# EAGLE library part SHARP-PC-CARTRIDGE (library KaiBader-Sharp-PC)
Sharp PC-1500(A) / PC-1600 internal 40-pin Cartridge Connector
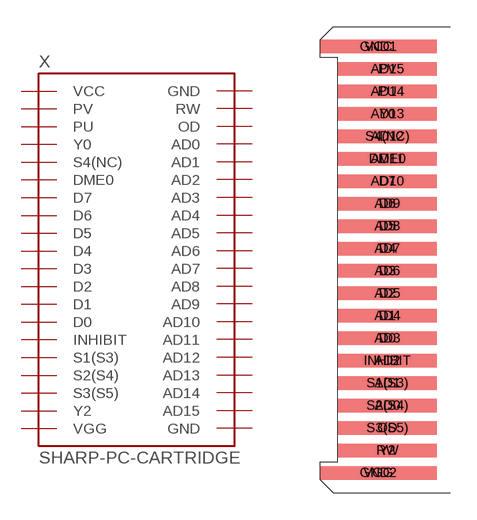
[diagram p0: symbol with the pads of SHARP-PC-CARTRIDGE; footprint SHARP-PC-CARTRIDGE]

Designator prefix X

## SHARP-PC-CARTRIDGE  [SHARP-PC-CARTRIDGE]
AD0  AD0
AD1  AD1
AD2  AD2
AD3  AD3
AD4  AD4
AD5  AD5
AD6  AD6
AD7  AD7
AD8  AD8
AD9  AD9
AD10  AD10
AD11  AD11
AD12  AD12
AD13  AD13
AD14  AD14
AD15  AD15
D0  D0
D1  D1
D2  D2
D3  D3
D4  D4
D5  D5
D6  D6
D7  D7
DME0  DME0
GND1  GND  pwr
GND2  GND  pwr
INHIBIT  INHIBIT
OD  OD
PU  PU
PV  PV
RW  RW
S1(S3)  S1(S3)
S2(S4)  S2(S4)
S3(S5)  S3(S5)
S4(NC)  S4(NC)
VCC  VCC  pwr
VGG  VGG  pwr
Y0  Y0
Y2  Y2

## Footprint SHARP-PC-CARTRIDGE (pad centres in mm)
smd 5.588 x 0.762 bottom: AD0 3.81,4.953; AD1 3.81,6.223; AD2 3.81,7.493; AD3 3.81,8.763; AD4 3.81,10.033; AD5 3.81,11.303; AD6 3.81,12.573; AD7 3.81,13.843; AD8 3.81,15.113; AD9 3.81,16.383; AD10 3.81,17.653; AD11 3.81,18.923; AD12 3.81,20.193; AD13 3.81,21.463; AD14 3.81,22.733; AD15 3.81,24.003; OD 3.81,3.683; RW 3.81,2.413
smd 5.588 x 0.762: D0 3.81,8.763; D1 3.81,10.033; D2 3.81,11.303; D3 3.81,12.573; D4 3.81,13.843; D5 3.81,15.113; D6 3.81,16.383; D7 3.81,17.653; DME0 3.81,18.923; INHIBIT 3.81,7.493; PU 3.81,22.733; PV 3.81,24.003; S1(S3) 3.81,6.223; S2(S4) 3.81,4.953; S3(S5) 3.81,3.683; S4(NC) 3.81,20.193; Y0 3.81,21.463; Y2 3.81,2.413
smd 6.604 x 0.762 bottom: GND1 3.302,25.273; GND2 3.302,1.143
smd 6.604 x 0.762: VCC 3.302,25.273; VGG 3.302,1.143